# Altium schematic symbol library TLP293(GB-TPL,E.Schlib: 1 symbol
Pins are listed as number, name and electrical type; pins without a type are passive.

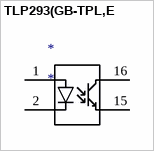
[diagram p0: symbol TLP293(GB-TPL,E]

## TLP293(GB-TPL,E
designator *
Transistor Optocouplers DC 3750Vrms SOP-4_P1.27 Optocouplers RoHS; ComponentLink1Description: LCSC - TOSHIBA TLP293(GB-TPL,E; ComponentLink1URL: https://lcsc.com/product-detail/Others_TOSHIBA_TLP293-GB-TPL-E_TOSHIBA-TLP293-GB-TPL-E_C77656.html/?href=jlc-SMT
pins: 1, 2, 15 (oe), 16 (oc)